# Altium schematic symbol library LDL212PVR.Schlib: 1 symbol
Pins are listed as number, name and electrical type; pins without a type are passive.

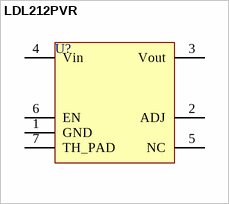
[diagram p0: symbol LDL212PVR]

## LDL212PVR
designator U?
Linear Voltage Regulator IC 1 Output 1.2A 6-DFN (2x2)
pins: 1 GND, 2 ADJ, 3 Vout, 4 Vin, 5 NC, 6 EN, 7 TH_PAD